# Altium footprint library 4-C-Tan+SMT.PcbLib: 75 footprints (part 3 of 5)
Each footprint in its own frame and in the unit in brackets; x right, y up, seen from the top. Pads: shape width x height; smd on the part's side, far side on the other; paste and mask are expansions set on the pad; w line width, h text height; cw(c..) or ccw(c..) is an arc to the next point about the centre after c.
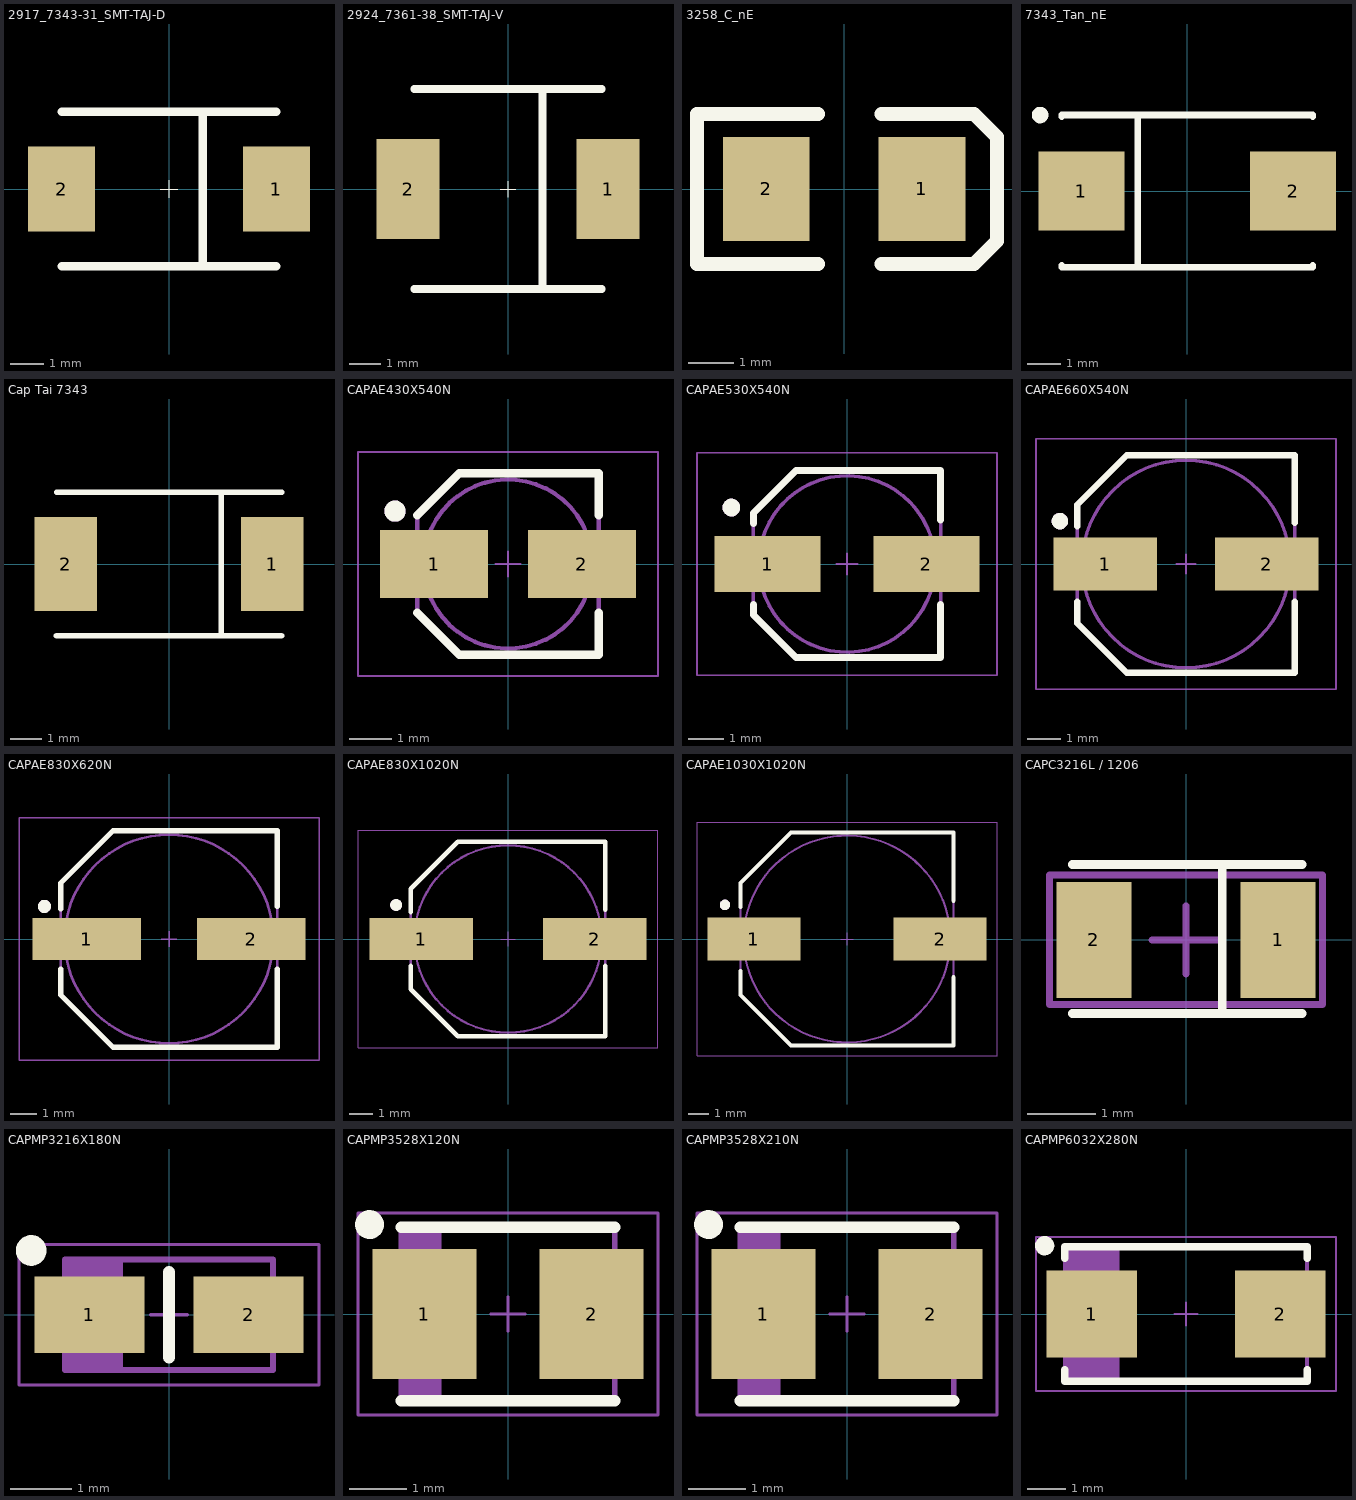
[diagram p2: the footprints below, top view; thin cyan lines are the x and y axes]

## 2917_7343-31_SMT-TAJ-D [mm] "Metric 7343-31"
pads (2):
  rect 2x2.54 smd mask+0.051: 1(3.2,0) 2(-3.2,0)
Top Overlay:
  lines w0.005: -0.254,0 0.254,0 ; 0,-0.257 0,0.254
  lines w0.254: -3.2,-2.3 3.2,-2.3 ; -3.2,2.3 3.2,2.3 ; 1,-2.3 1,2.3
3D body "2917_smt-taj-d.stp": height 2.9, standoff 0, extent -3.64,-2.14 3.66,2.16
3D body "p254-200.stp": height 0.02, standoff 0, extent 2.2,-1.27 4.2,1.27
3D body "p254-200.stp": height 0.02, standoff 0, extent -4.2,-1.27 -2.2,1.27

## 2924_7361-38_SMT-TAJ-V [mm]
pads (2):
  rect 2x3.2 smd mask+0.051: 1(3.2,0) 2(-3.2,0)
Top Overlay:
  lines w0.005: -0.254,0 0.254,0 ; 0,-0.257 0,0.254
  lines w0.254: -3,-3.2 3,-3.2 ; -3,3.2 3,3.2 ; 1,3.2 cw(c1,3.1) 1.1,3.1 1.1,-3.2
3D body "2924_smt-taj-v.stp": height 3.55, standoff 0, extent -3.67,-3.06 3.63,3.04
3D body "p320-200.stp": height 0.02, standoff 0, extent -4.2,-1.6 -2.2,1.6
3D body "p320-200.stp": height 0.02, standoff 0, extent 2.2,-1.6 4.2,1.6

## 3258_C_nE [mil]
height 57.09
pads (2):
  rect 75x90 smd mask+2.76: 1(67.5,0)
  rect 75x90 smd: 2(-67.5,0)
Top Overlay:
  lines w12: -22.5,-65 -127.5,-65 -127.5,65 -22.5,65 ; 32.5,-65 112.5,-65 132.5,-45 132.5,45 112.5,65 32.5,65
3D body "1_9-2_3.stp": height 0.79, standoff 0, extent 31.5,-45.27 106.3,45.28
3D body "1_9-2_3.stp": height 0.79, standoff 0, extent -104.91,-45.28 -30.1,45.28
3D body "1210_smt-taj-b.stp": height 74.84, standoff -0.08, extent -68.89,-55.11 68.9,55.13

## 7343_Tan_nE [mm]
height 1.45
pads (2):
  rect 2.6x2.4 smd mask+0.07: 1(-3.2,0)
  rect 2.6x2.4 smd: 2(3.2,0)
Top Overlay:
  circle w0.25: c-4.45,2.3 r0.125
  lines w0.2: -3.8,-2.25 -3.8,-2.3 3.8,-2.3 3.8,-2.25 ; -3.8,2.25 -3.8,2.3 3.8,2.3 3.8,2.25 ; -1.5,-2.3 -1.5,2.3
3D body "2_92-2_29.stp": height 0.02, standoff 0, extent -4.66,-1.145 -1.74,1.145
3D body "2_92-2_29.stp": height 0.02, standoff 0, extent 1.74,-1.145 4.66,1.145
3D body "tpb_7343-28.stp": height 2.81, standoff 0, extent -3.65,-2.15 3.65,2.15

## Cap Tai 7343 [mm]
height 3.8
pads (2):
  rect 2x3 smd: 1(3.3,0)
  rect 2x3 smd mask+0.07: 2(-3.3,0)
Top Overlay:
  lines w0.178: -3.6,-2.3 3.6,-2.3 ; -3.593,2.3 3.607,2.3 ; 1.676,-2.3 1.676,2.3
3D body "3-2-7343.stp": height 0.02, standoff 0, extent 2.299,-1.499 4.299,1.501
3D body "3-2-7343.stp": height 0.02, standoff 0, extent -4.286,-1.486 -2.286,1.514
3D body "cap-7343_43.stp": height 4, standoff 0, extent -3.915,-2.159 3.915,2.141

## CAPAE430X540N [mm] "Capacitor, Aluminium Electrolytric, 4.3mm L X 4.3mm W X 5.4mm H, IPC Medium Density"
height 5.4
pads (2):
  rect 2.55x1.6 smd: 1(-1.75,0) 2(1.75,0)
Top Overlay:
  circle w0.25: c-2.675,1.25 r0.125
  lines w0.2: -2.15,-1.15 -1.15,-2.15 2.15,-2.15 2.15,-1.15 ; -2.15,1.15 -1.15,2.15 2.15,2.15 2.15,1.15
Mechanical 14:
  circle w0.1: c0,0 r2
  circle w0.25: c-2.675,1.25 r0.125
  lines w0.1: -2.15,-1.15 -2.15,1.15 -1.15,2.15 2.15,2.15 2.15,-2.15 -1.15,-2.15 -2.15,-1.15
Mechanical 15:
  lines w0.05: -0.3,0 0.3,0 ; 0,-0.3 0,0.3 ; -3.55,-2.65 3.55,-2.65 3.55,2.65 -3.55,2.65 -3.55,-2.65
3D body "CAPAE430X540N.stp": height 5.7, standoff 0, extent -2.75,-2.25 2.75,2.25
3D body "p255-160.stp": height 0.02, standoff 0, extent -3.075,-0.8 -0.525,0.8
3D body "p255-160.stp": height 0.02, standoff 0, extent 0.525,-0.8 3.075,0.8

## CAPAE530X540N [mm] "Capacitor, Aluminium Electrolytric, 5.3mm L X 5.3mm W X 5.4mm H, IPC Medium Density"
height 5.4
pads (2):
  rect 3x1.6 smd: 1(-2.25,0) 2(2.25,0)
Top Overlay:
  circle w0.25: c-3.275,1.6 r0.125
  lines w0.2: -2.65,-1.15 -2.65,-1.45 -1.45,-2.65 2.65,-2.65 2.65,-1.15 ; -2.65,1.15 -2.65,1.45 -1.45,2.65 2.65,2.65 2.65,1.25
Mechanical 14:
  circle w0.25: c-3.275,1.6 r0.125
  circle w0.1: c0,0 r2.5
  lines w0.1: -2.65,-1.45 -1.45,-2.65 2.65,-2.65 2.65,2.65 -1.45,2.65 -2.65,1.45 -2.65,-1.45
Mechanical 15:
  lines w0.05: -0.3,0 0.3,0 ; 0,-0.3 0,0.3 ; -4.25,-3.15 -4.25,3.15 4.25,3.15 4.25,-3.15 -4.25,-3.15
3D body "CAPAE530X540N.stp": height 5.7, standoff 0, extent -3.25,-2.75 3.25,2.75
3D body "p300-160.stp": height 0.02, standoff 0, extent 0.8,-0.8 3.8,0.8
3D body "p300-160.stp": height 0.02, standoff 0, extent -3.8,-0.8 -0.8,0.8

## CAPAE660X540N [mm] "Capacitor, Aluminium Electrolytric, 6.6mm L X 6.6mm W X 5.4mm H, IPC Medium Density"
height 5.4
pads (2):
  rect 3.15x1.6 smd: 1(-2.45,0) 2(2.45,0)
Top Overlay:
  circle w0.25: c-3.825,1.3 r0.125
  lines w0.2: -3.3,-1.15 -3.3,-1.8 -1.8,-3.3 3.3,-3.3 3.3,-1.15 ; -3.3,1.15 -3.3,1.8 -1.8,3.3 3.3,3.3 3.3,1.25
Mechanical 14:
  circle w0.25: c-3.825,1.3 r0.125
  circle w0.1: c0,0 r3.15
  lines w0.1: -3.3,-1.8 -1.8,-3.3 3.3,-3.3 3.3,3.3 -1.8,3.3 -3.3,1.8 -3.3,-1.8
Mechanical 15:
  lines w0.05: -0.3,0 0.3,0 ; 0,-0.3 0,0.3 ; -4.55,-3.8 -4.55,3.8 4.55,3.8 4.55,-3.8 -4.55,-3.8
3D body "CAPAE660X540N.stp": height 5.7, standoff 0, extent -3.9,-3.4 3.9,3.4
3D body "p300-160.stp": height 0.02, standoff 0, extent -4.1,-0.8 -1.1,0.8
3D body "p300-160.stp": height 0.02, standoff 0, extent 1.1,-0.8 4.1,0.8

## CAPAE830X620N [mm] "Capacitor, Aluminium Electrolytric, 8.3mm L X 8.3mm W X 6.2mm H, IPC Medium Density"
height 6.2
pads (2):
  rect 4.15x1.6 smd: 1(-3.15,0) 2(3.15,0)
Top Overlay:
  circle w0.25: c-4.775,1.25 r0.125
  lines w0.2: -4.15,-1.15 -4.15,-2.15 -2.15,-4.15 4.15,-4.15 4.15,-1.15 ; -4.15,1.15 -4.15,2.15 -2.15,4.15 4.15,4.15 4.15,1.25
Mechanical 14:
  circle w0.25: c-4.774,1.251 r0.125
  circle w0.1: c0,0 r4
  lines w0.1: -4.15,-2.15 -2.15,-4.15 4.15,-4.15 4.15,4.15 -2.15,4.15 -4.15,2.15 -4.15,-2.15
Mechanical 15:
  lines w0.05: -0.3,0 0.3,0 ; 0,-0.3 0,0.3 ; -5.75,-4.65 -5.75,4.65 5.75,4.65 5.75,-4.65 -5.75,-4.65
3D body "CAPAE830X620N.stp": height 6.2, standoff 0, extent -4.75,-4.25 4.75,4.25
3D body "p300-160.stp": height 0.02, standoff 0, extent 2.3,-0.8 5.3,0.8
3D body "p300-160.stp": height 0.02, standoff 0, extent -5.3,-0.8 -2.3,0.8

## CAPAE830X1020N [mm] "Capacitor, Aluminium Electrolytric, 8.3mm L X 8.3mm W X 10.2mm H, IPC Medium Density"
height 10.2
pads (2):
  rect 4.4x1.8 smd: 1(-3.7,0) 2(3.7,0)
Top Overlay:
  circle w0.25: c-4.775,1.45 r0.125
  lines w0.2: -4.15,-1.15 -4.15,-2.15 -2.15,-4.15 4.15,-4.15 4.15,-1.15 ; -4.15,1.15 -4.15,2.15 -2.15,4.15 4.15,4.15 4.15,1.25
Mechanical 14:
  circle w0.1: c0,0 r4
  circle w0.25: c-4.775,1.45 r0.125
  lines w0.1: -4.15,-2.15 -4.15,2.15 -2.15,4.15 4.15,4.15 4.15,-4.15 -2.15,-4.15 -4.15,-2.15
Mechanical 15:
  lines w0.05: -0.3,0 0.3,0 ; 0,-0.3 0,0.3 ; -6.4,-4.65 6.4,-4.65 6.4,4.65 -6.4,4.65 -6.4,-4.65
3D body "p440-180.stp": height 0.02, standoff 0, extent 1.5,-0.9 5.9,0.9
3D body "p440-180.stp": height 0.02, standoff 0, extent -5.9,-0.9 -1.5,0.9
3D body "CAPAE830X1020N.stp": height 10.2, standoff 0, extent -4.75,-4.25 5.25,4.25

## CAPAE1030X1020N [mm] "Capacitor, Aluminium Electrolytric, 10.3mm L X 10.3mm W X 10.2mm H, IPC Medium Density"
height 10.2
pads (2):
  rect 4.5x2.1 smd: 1(-4.5,0) 2(4.5,0)
Top Overlay:
  circle w0.25: c-5.9,1.65 r0.125
  lines w0.2: -5.15,-1.55 -5.15,-2.35 -5.15,-2.7 -2.7,-5.15 5.15,-5.15 5.15,-1.85 ; -5.15,1.55 -5.15,2.7 -2.7,5.15 5.15,5.15 5.15,1.85
Mechanical 14:
  circle w0.25: c-5.899,1.651 r0.125
  circle w0.1: c0,0 r5
  lines w0.1: -5.15,-2.7 -5.15,2.7 -2.7,5.15 5.15,5.15 5.15,-5.15 -2.7,-5.15 -5.15,-2.7
Mechanical 15:
  lines w0.05: -0.3,0 0.3,0 ; 0,-0.3 0,0.3 ; -7.25,-5.65 7.25,-5.65 7.25,5.65 -7.25,5.65 -7.25,-5.65
3D body "CAPAE1030X1020N.stp": height 10.2, standoff 0, extent -6,-5.25 6,5.25
3D body "p450-210.stp": height 0.02, standoff 0, extent -6.75,-1.05 -2.25,1.05
3D body "p450-210.stp": height 0.02, standoff 0, extent 2.25,-1.05 6.75,1.05

## CAPC3216L / 1206 [mm] "Chip Capacitor, Body 3.2x1.6mm, IPC High Density"
height 1.3
pads (2):
  rect 1.1x1.7 smd mask+0.07: 1(1.35,0) 2(-1.35,0)
Top Overlay:
  lines w0.127: -1.664,-1.079 1.702,-1.079 ; -1.664,1.105 1.702,1.105 ; 0.533,-1.067 0.533,1.092
Mechanical 15:
  lines w0.1: -0.5,0 0.5,0 ; 0,-0.5 0,0.5 ; -2,-0.95 -2,0.95 2,0.95 2,-0.95 -2,-0.95
3D body "1206_smt-taj-a.stp": height 1.6, standoff 0, extent -1.6,-0.8 1.6,0.8
3D body "1_7-1_1.stp": height 0.02, standoff 0, extent -1.896,-0.85 -0.796,0.85
3D body "1_7-1_1.stp": height 0.02, standoff 0, extent 0.796,-0.85 1.896,0.85

## CAPMP3216X180N [mm] "Capacitor, Polarized, Molded  Body 3.2x1.6mm, IPC Medium Density"
height 1.8
pads (2):
  rect 1.8x1.25 smd: 1(-1.3,0) 2(1.3,0)
Top Overlay:
  circle w0.25: c-2.25,1.05 r0.125
  lines w0.2: 0,-0.7 0,0.7
Mechanical 14:
  lines w0.1: -1.625,-0.9 -1.625,0.9 ; -1.55,-0.9 -1.55,0.9 ; -1.475,-0.9 -1.475,0.9 ; -1.4,-0.9 -1.4,0.9 ; -1.325,-0.9 -1.325,0.9 ; -1.25,-0.9 -1.25,0.9 ; -1.175,-0.9 -1.175,0.9 ; -1.1,-0.9 -1.1,0.9 ; -1.025,-0.9 -1.025,0.9 ; -0.95,-0.9 -0.95,0.9 ; -0.875,-0.9 -0.875,0.9 ; -1.7,-0.9 -1.7,0.9 1.7,0.9 1.7,-0.9 -1.7,-0.9 ; -0.8,-0.9 -0.8,0.9 -0.8,-0.9
Mechanical 15:
  lines w0.05: -0.3,0 0.3,0 ; 0,-0.3 0,0.3 ; -2.45,-1.15 2.45,-1.15 2.45,1.15 -2.45,1.15 -2.45,-1.15
3D body "p180-125.stp": height 0.02, standoff 0, extent -2.2,-0.625 -0.4,0.625
3D body "p180-125.stp": height 0.02, standoff 0, extent 0.4,-0.625 2.2,0.625
3D body "CAPMP3216X180N.stp": height 1.6, standoff 0, extent -1.7,-0.9 1.7,0.9

## CAPMP3528X120N [mm] "Capacitor, Polarized, Molded  Body 3.5x2.8mm, IPC Medium Density"
height 1.2
pads (2):
  rect 1.8x2.25 smd: 1(-1.45,0) 2(1.45,0)
Top Overlay:
  circle w0.25: c-2.4,1.55 r0.125
  lines w0.2: -1.85,-1.5 1.85,-1.5 ; -1.85,1.5 1.85,1.5
Mechanical 14:
  lines w0.1: -1.8,-1.5 -1.8,1.5 ; -1.725,-1.5 -1.725,1.5 ; -1.65,-1.5 -1.65,1.5 ; -1.575,-1.5 -1.575,1.5 ; -1.5,-1.5 -1.5,1.5 ; -1.425,-1.5 -1.425,1.5 ; -1.35,-1.5 -1.35,1.5 ; -1.275,-1.5 -1.275,1.5 ; -1.2,-1.5 -1.2,1.5 ; -1.85,-1.5 1.85,-1.5 1.85,1.5 -1.85,1.5 -1.85,-1.5
Mechanical 15:
  lines w0.05: -0.3,0 0.3,0 ; 0,-0.3 0,0.3 ; -2.6,-1.75 -2.6,1.75 2.6,1.75 2.6,-1.75 -2.6,-1.75
3D body "CAPMP3528X120N.stp": height 1.2, standoff 0, extent -1.85,-1.5 1.85,1.5
3D body "p225-180.stp": height 0.02, standoff 0, extent -2.4,-1.125 -0.6,1.125
3D body "p225-180.stp": height 0.02, standoff 0, extent 0.6,-1.125 2.4,1.125

## CAPMP3528X210N [mm] "Capacitor, Polarized, Molded  Body 3.5x2.8mm, IPC Medium Density"
height 2.1
pads (2):
  rect 1.8x2.25 smd: 1(-1.45,0) 2(1.45,0)
Top Overlay:
  circle w0.25: c-2.4,1.55 r0.125
  lines w0.2: -1.85,-1.5 1.85,-1.5 ; -1.85,1.5 1.85,1.5
Mechanical 14:
  lines w0.1: -1.8,-1.5 -1.8,1.5 ; -1.725,-1.5 -1.725,1.5 ; -1.65,-1.5 -1.65,1.5 ; -1.575,-1.5 -1.575,1.5 ; -1.5,-1.5 -1.5,1.5 ; -1.425,-1.5 -1.425,1.5 ; -1.35,-1.5 -1.35,1.5 ; -1.275,-1.5 -1.275,1.5 ; -1.2,-1.5 -1.2,1.5 ; -1.85,-1.5 -1.85,1.5 1.85,1.5 1.85,-1.5 -1.85,-1.5
Mechanical 15:
  lines w0.05: -0.3,0 0.3,0 ; 0,-0.3 0,0.3 ; -2.6,-1.75 2.6,-1.75 2.6,1.75 -2.6,1.75 -2.6,-1.75
3D body "CAPMP3528X210N.stp": height 2.1, standoff 0, extent -1.85,-1.5 1.85,1.5
3D body "p225-180.stp": height 0.02, standoff 0, extent -2.4,-1.125 -0.6,1.125
3D body "p225-180.stp": height 0.02, standoff 0, extent 0.6,-1.125 2.4,1.125

## CAPMP6032X280N [mm] "Capacitor, Polarized, Molded  Body 6.0x3.2mm, IPC Medium Density"
height 2.8
pads (2):
  rect 2.35x2.25 smd: 1(-2.45,0) 2(2.45,0)
Top Overlay:
  circle w0.25: c-3.675,1.775 r0.125
  lines w0.2: -3.15,-1.45 -3.15,-1.75 3.15,-1.75 3.15,-1.45 ; -3.15,1.45 -3.15,1.75 3.15,1.75 3.15,1.45
Mechanical 14:
  lines w0.1: -3.05,-1.725 -3.05,1.75 ; -2.975,-1.725 -2.975,1.75 ; -2.9,-1.725 -2.9,1.75 ; -2.825,-1.725 -2.825,1.75 ; -2.75,-1.725 -2.75,1.75 ; -2.675,-1.725 -2.675,1.75 ; -2.6,-1.725 -2.6,1.75 ; -2.525,-1.725 -2.525,1.75 ; -2.45,-1.725 -2.45,1.75 ; -2.375,-1.725 -2.375,1.75 ; -2.3,-1.725 -2.3,1.75 ; -2.225,-1.725 -2.225,1.75 ; -2.15,-1.725 -2.15,1.75 ; -2.075,-1.725 -2.075,1.75 ; -2,-1.725 -2,1.75 ; -1.925,-1.725 -1.925,1.75 ; -1.85,-1.725 -1.85,1.75 ; -1.775,-1.725 -1.775,1.75 ; -3.15,-1.725 3.15,-1.725 3.15,1.75 -3.15,1.75 -3.15,-1.725
Mechanical 15:
  lines w0.05: -0.3,0 0.3,0 ; 0,-0.3 0,0.3 ; -3.9,-2 3.9,-2 3.9,2 -3.9,2 -3.9,-2
3D body "CAPMP6032X280N.stp": height 2.8, standoff 0, extent -3.15,-1.75 3.15,1.75
3D body "p235-225.stp": height 0.02, standoff 0, extent -3.675,-1.125 -1.325,1.125
3D body "p235-225.stp": height 0.02, standoff 0, extent 1.325,-1.125 3.675,1.125